# EAGLE library part OPTOFLASH-SMD5060RGB-R (library RGB_LED)
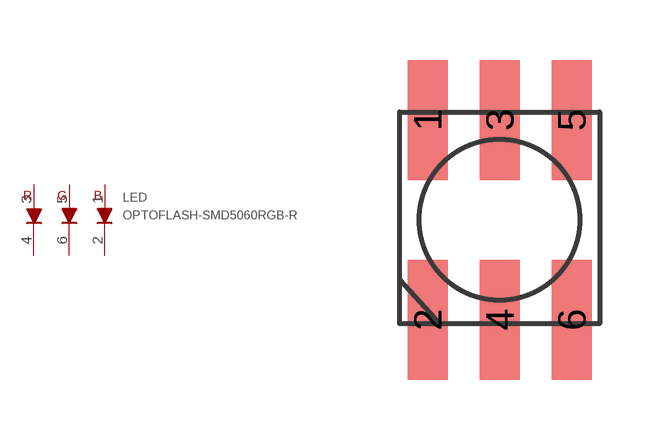
[diagram p0: symbol with the pads of PLCC_5060; footprint PLCC_5060]

Designator prefix LED

## OPTOFLASH-SMD5060RGB-R  [PLCC_5060]
1  BA
2  BC
3  RA
4  RC
5  GA
6  GC

## Footprint PLCC_5060 (pad centres in mm)
smd 1 x 3: 1 -1.8,2.5; 2 -1.8,-2.5; 3 0,2.5; 4 0,-2.5; 5 1.8,2.5; 6 1.8,-2.5